# Altium footprint library xal_2_1620x1520x1000.PcbLib: 1 footprints
Each footprint in its own frame and in the unit in brackets; x right, y up, seen from the top. Pads: shape width x height; smd on the part's side, far side on the other; paste and mask are expansions set on the pad; w line width, h text height; cw(c..) or ccw(c..) is an arc to the next point about the centre after c.
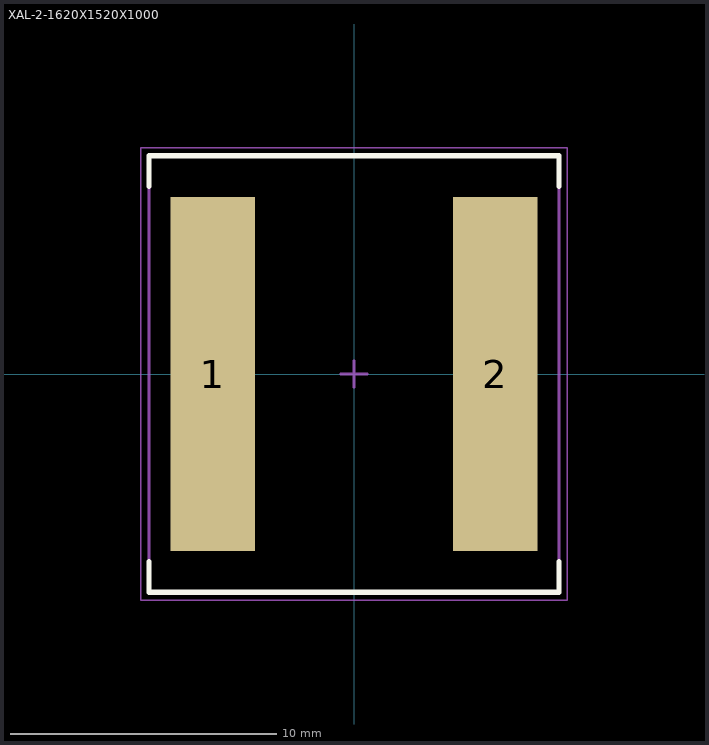
[diagram p0: the footprint, top view; thin cyan lines are the x and y axes]

## XAL-2-1620X1520X1000 [mm] "Precision Wire Wound Inductor, 2-Leads, Body 16,20x15,20mm, IPC Medium Density"
height 10
pads (2):
  rect 3.18x13.3 smd: 1(-5.3,0) 2(5.3,0)
Top Overlay:
  lines w0.2: -7.7,-7.05 -7.7,-8.2 7.7,-8.2 7.7,-7.05 ; -7.7,7.05 -7.7,8.2 7.7,8.2 7.7,7.05
Top Comment:
  text ".Comment" at 1.1,8.9 h1.2
Top Designator:
  text ".Designator" at -0.3,8.9 h1.2
Top Component Outline:
  lines w0.1: -7.7,-8.2 7.7,-8.2 7.7,8.2 -7.7,8.2 -7.7,-8.2
Top Courtyard:
  lines w0.05: -8,-8.5 8,-8.5 8,8.5 -8,8.5 -8,-8.5
  lines w0.1: -0.5,0 0.5,0 ; 0,-0.5 0,0.5
3D body "XAL1510-333.step": height 10.7, standoff -0.3, extent -7.7,-8.2 7.7,8.2